# EAGLE library part HAT_BOARD_NO_SLIT (library Raspberry_Pi_B+)
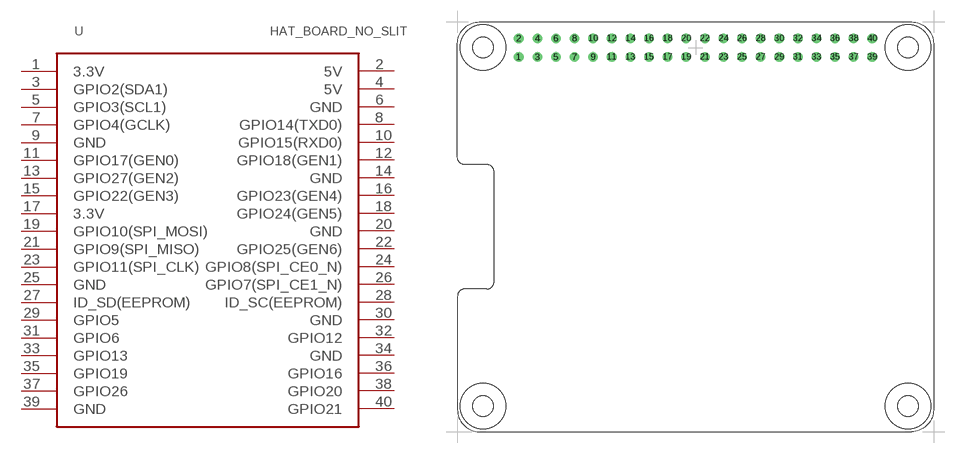
[diagram p1: symbol with the pads of HAT_BOARD_NO_SLIT; footprint HAT_BOARD_NO_SLIT]

Designator prefix U

## HAT_BOARD_NO_SLIT  [HAT_BOARD_NO_SLIT]
1  3.3V  sup
2  5V  sup
3  GPIO2(SDA1)
4  5V  sup
5  GPIO3(SCL1)
6  GND  sup
7  GPIO4(GCLK)
8  GPIO14(TXD0)
9  GND  sup
10  GPIO15(RXD0)
11  GPIO17(GEN0)
12  GPIO18(GEN1)
13  GPIO27(GEN2)
14  GND  sup
15  GPIO22(GEN3)
16  GPIO23(GEN4)
17  3.3V  sup
18  GPIO24(GEN5)
19  GPIO10(SPI_MOSI)
20  GND  sup
21  GPIO9(SPI_MISO)
22  GPIO25(GEN6)
23  GPIO11(SPI_CLK)
24  GPIO8(SPI_CE0_N)
25  GND  sup
26  GPIO7(SPI_CE1_N)
27  ID_SD(EEPROM)
28  ID_SC(EEPROM)  in
29  GPIO5
30  GND  sup
31  GPIO6
32  GPIO12
33  GPIO13
34  GND  sup
35  GPIO19
36  GPIO16
37  GPIO26
38  GPIO20
39  GND  sup
40  GPIO21

## Footprint HAT_BOARD_NO_SLIT (pad centres in mm)
drill 0.8: 1 -24.13,-1.27; 2 -24.13,1.27; 3 -21.59,-1.27; 4 -21.59,1.27; 5 -19.05,-1.27; 6 -19.05,1.27; 7 -16.51,-1.27; 8 -16.51,1.27; 9 -13.97,-1.27; 10 -13.97,1.27; 11 -11.43,-1.27; 12 -11.43,1.27; 13 -8.89,-1.27; 14 -8.89,1.27; 15 -6.35,-1.27; 16 -6.35,1.27; 17 -3.81,-1.27; 18 -3.81,1.27; 19 -1.27,-1.27; 20 -1.27,1.27; 21 1.27,-1.27; 22 1.27,1.27; 23 3.81,-1.27; 24 3.81,1.27; 25 6.35,-1.27; 26 6.35,1.27; 27 8.89,-1.27; 28 8.89,1.27; 29 11.43,-1.27; 30 11.43,1.27; 31 13.97,-1.27; 32 13.97,1.27; 33 16.51,-1.27; 34 16.51,1.27; 35 19.05,-1.27; 36 19.05,1.27; 37 21.59,-1.27; 38 21.59,1.27; 39 24.13,-1.27; 40 24.13,1.27
hole 2.8 at -29,-49
hole 2.8 at 29,-49
hole 2.8 at 29,0
hole 2.8 at -29,0